# Altium schematic symbol library RT1206DRE07330RL.SchLib: 1 symbol
Pins are listed as number, name and electrical type; pins without a type are passive.

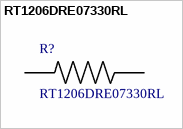
[diagram p0: symbol RT1206DRE07330RL]

## RT1206DRE07330RL
designator R?
RES SMD 330 OHM 0.5% 1/4W 1206; MF: Yageo; Price: None; Package: 3116 Yageo; SnapEDA_Link: https://www.snapeda.com/parts/RT1206DRE07330RL/Yageo/view-part/?ref=snap; MP: RT1206DRE07330RL; Availability: Unavailable; Value: *
footprint *RESC3116X65N
pins: 1, 2